# Altium integrated library FFB_1_20P.IntLib: 1 symbol
Pins are listed as number, name and electrical type; pins without a type are passive.

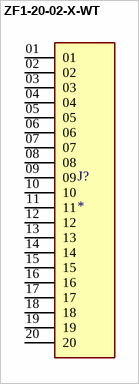
[diagram p0: symbol ZF1-20-02-X-WT]

## ZF1-20-02-X-WT
designator J?
20 Position FFC Connector Contacts, Top 0.039 (1.00mm) Surface Mount, Right Angle; MF: Samtec; MP: ZF1-20-02-T-WT; Availability: Bad; Check_prices: https://www.snapeda.com/parts/ZF1-20-02-T-WT/Samtec/view-part/3429267/?ref=eda; SnapEDA_Link: https://www.snapeda.com/parts/ZF1-20-02-T-WT/Samtec/view-part/3429267/?ref=snap; Value: *; Price: None; Purchase-URL: https://pricing.snapeda.com/search/part/ZF1-20-02-T-WT/?ref=eda; Package: None
footprint SAMTEC_ZF1-20-02-X-WT
pins: 01, 02, 03, 04, 05, 06, 07, 08, 09, 10, 11, 12, 13, 14, 15, 16, 17, 18, 19, 20